# Altium integrated library TI Interface Line Transceiver.IntLib: 631 symbols (part 10 of 17)
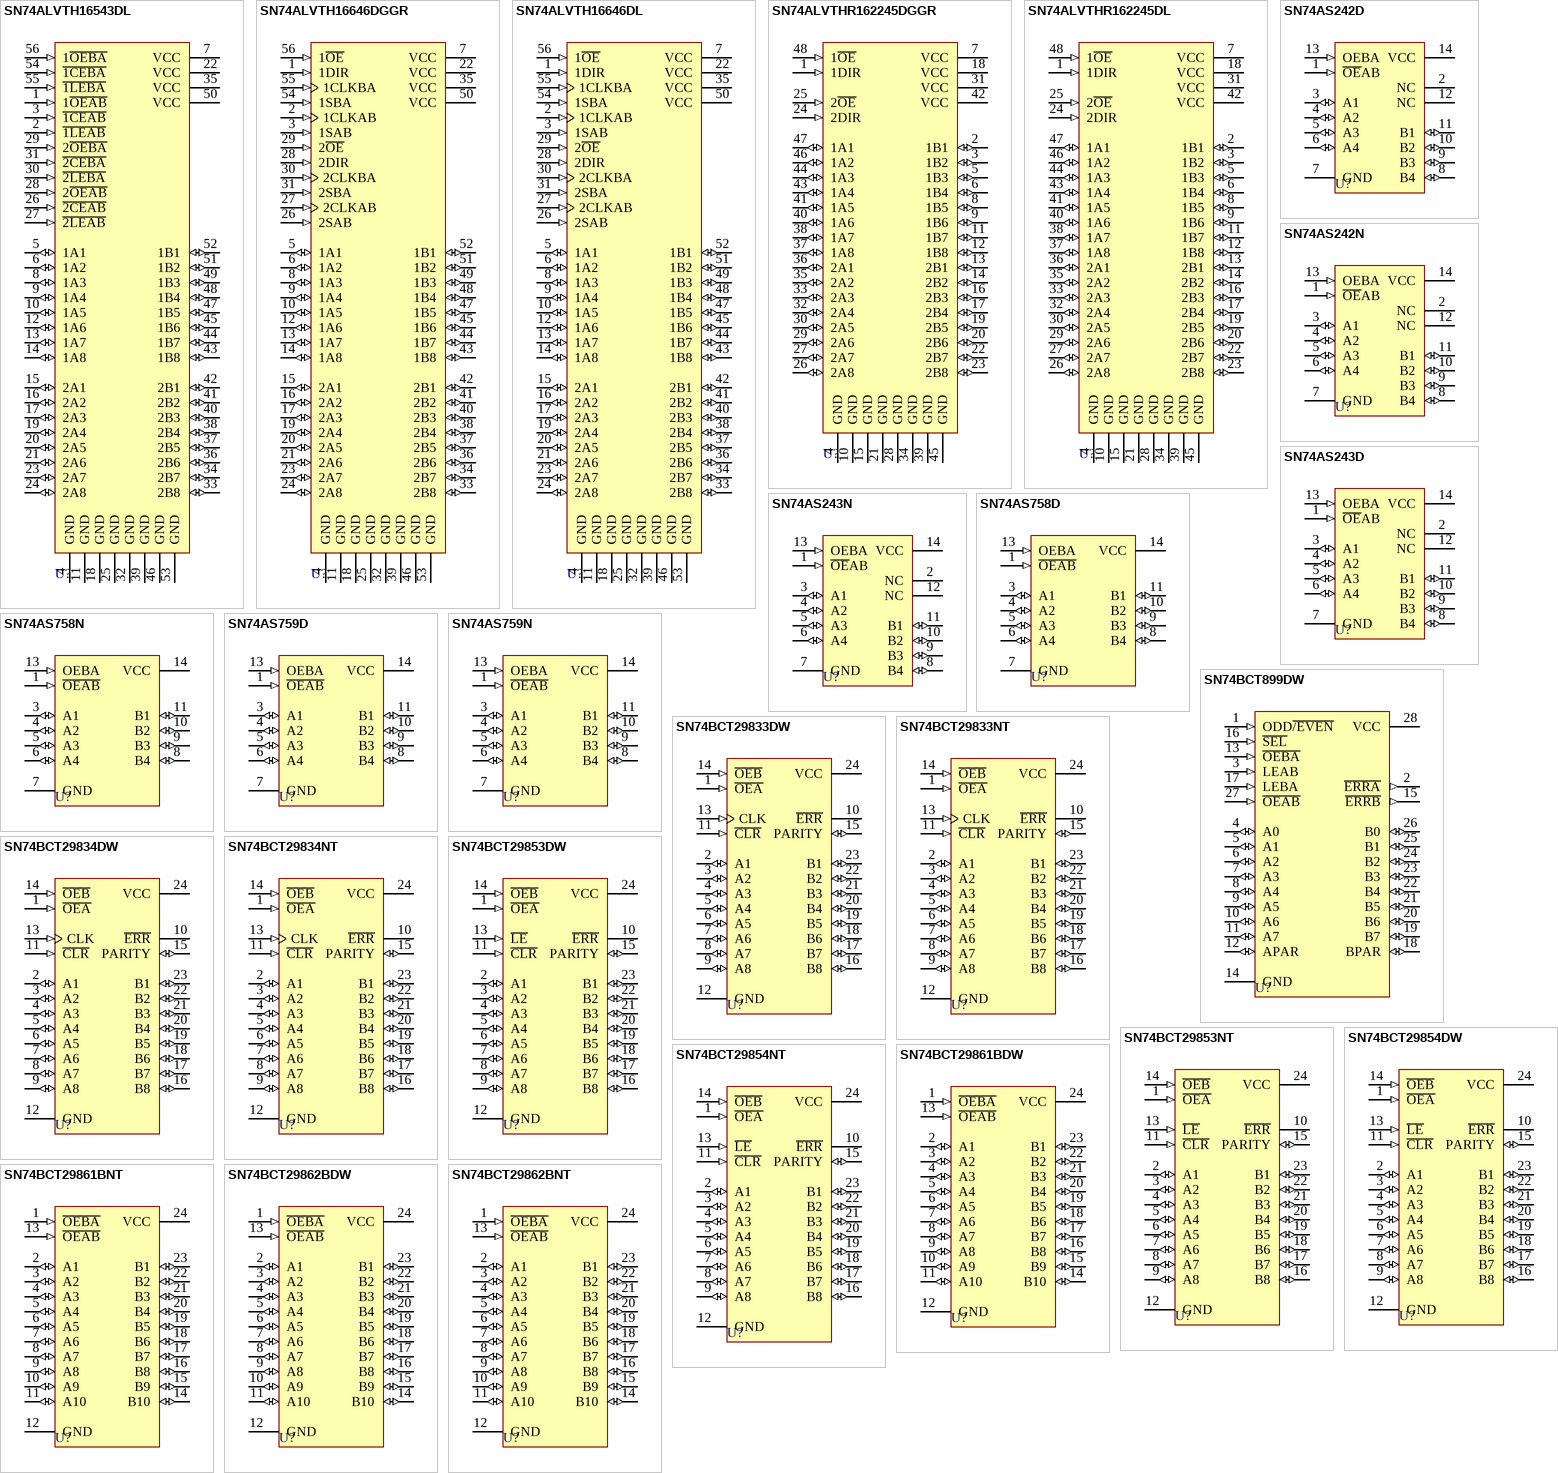
[diagram p48: symbols SN74ALVTH16543DL to SN74BCT29862BNT]

## SN74ALVTH16646DGGR
designator U?
2.5-V/3.3-V 16-Bit Bus Transceiver with 3-State Outputs; Published: 8-Jun-2000; LatestRevisionDate: 04-Mar-2005; LatestRevisionNote: Stylized 3D Model Added.; DatasheetVersion: Jul-1996; PackageVersion: Jan-1998; PackageReference: DGG056; Publisher: Altium Limited; PackageDescription: Shrink Small Outline; 56 Leads; Body Width 6.1 mm; Pitch 0.5 mm; ComponentLink1Description: Manufacturer Link; ComponentLink1URL: http://www.ti.com/
footprint DGG056 (Shrink Small Outline; 56 Leads; Body Width 6.1 mm; Pitch 0.5 mm)
3D model DGG056 (Shrink Small Outline; 56 Leads; Body Width 6.1 mm; Pitch 0.5 mm)
pins: 1 1DIR (in), 2 1CLKAB (in), 3 1SAB (in), 4 GND (power), 5 1A1 (io), 6 1A2 (io), 7 VCC (power), 8 1A3 (io), 9 1A4 (io), 10 1A5 (io), 11 GND (power), 12 1A6 (io), 13 1A7 (io), 14 1A8 (io), 15 2A1 (io), 16 2A2 (io), 17 2A3 (io), 18 GND (power), 19 2A4 (io), 20 2A5 (io), 21 2A6 (io), 22 VCC (power), 23 2A7 (io), 24 2A8 (io), 25 GND (power), 26 2SAB (in), 27 2CLKAB (in), 28 2DIR (in), 29 2~{OE} (in), 30 2CLKBA (in), 31 2SBA (in), 32 GND (power), 33 2B8 (io), 34 2B7 (io), 35 VCC (power), 36 2B6 (io), 37 2B5 (io), 38 2B4 (io), 39 GND (power), 40 2B3 (io), 41 2B2 (io), 42 2B1 (io), 43 1B8 (io), 44 1B7 (io), 45 1B6 (io), 46 GND (power), 47 1B5 (io), 48 1B4 (io), 49 1B3 (io), 50 VCC (power), 51 1B2 (io), 52 1B1 (io), 53 GND (power), 54 1SBA (in), 55 1CLKBA (in), 56 1~{OE} (in)

## SN74ALVTH16646DL
designator U?
2.5-V/3.3-V 16-Bit Bus Transceiver with 3-State Outputs; Published: 8-Jun-2000; LatestRevisionDate: 04-Mar-2005; LatestRevisionNote: Stylized 3D Model Added.; DatasheetVersion: Jul-1996; PackageVersion: Dec-2001; PackageReference: DL056; Publisher: Altium Limited; PackageDescription: SSOP; 56 Leads; Body Width 7.5 mm; Pitch 0.635 mm; Code_JEDEC: MO-118-AB; Code_IPC: SSO56; ComponentLink1Description: Manufacturer Link; ComponentLink1URL: http://www.ti.com/
footprint DL056 (SSOP; 56 Leads; Body Width 7.5 mm; Pitch 0.635 mm)
3D model DL056 (SSOP; 56 Leads; Body Width 7.5 mm; Pitch 0.635 mm)
pins: 1 1DIR (in), 2 1CLKAB (in), 3 1SAB (in), 4 GND (power), 5 1A1 (io), 6 1A2 (io), 7 VCC (power), 8 1A3 (io), 9 1A4 (io), 10 1A5 (io), 11 GND (power), 12 1A6 (io), 13 1A7 (io), 14 1A8 (io), 15 2A1 (io), 16 2A2 (io), 17 2A3 (io), 18 GND (power), 19 2A4 (io), 20 2A5 (io), 21 2A6 (io), 22 VCC (power), 23 2A7 (io), 24 2A8 (io), 25 GND (power), 26 2SAB (in), 27 2CLKAB (in), 28 2DIR (in), 29 2~{OE} (in), 30 2CLKBA (in), 31 2SBA (in), 32 GND (power), 33 2B8 (io), 34 2B7 (io), 35 VCC (power), 36 2B6 (io), 37 2B5 (io), 38 2B4 (io), 39 GND (power), 40 2B3 (io), 41 2B2 (io), 42 2B1 (io), 43 1B8 (io), 44 1B7 (io), 45 1B6 (io), 46 GND (power), 47 1B5 (io), 48 1B4 (io), 49 1B3 (io), 50 VCC (power), 51 1B2 (io), 52 1B1 (io), 53 GND (power), 54 1SBA (in), 55 1CLKBA (in), 56 1~{OE} (in)

## SN74ALVTHR162245DGGR
designator U?
2.5-V/3.3-V 16-Bit Bus Transceiver with 3-State Outputs; Published: 8-Jun-2000; LatestRevisionDate: 04-Mar-2005; LatestRevisionNote: Stylized 3D Model Added.; DatasheetVersion: Jul-1996; PackageVersion: Jan-1998; PackageReference: DGG048; Publisher: Altium Limited; PackageDescription: Shrink Small Outline; 48 Leads; Body Width 6.1 mm; Pitch 0.5 mm; ComponentLink1Description: Manufacturer Link; ComponentLink1URL: http://www.ti.com/
footprint DGG048 (Shrink Small Outline; 48 Leads; Body Width 6.1 mm; Pitch 0.5 mm)
3D model DGG048 (Shrink Small Outline; 48 Leads; Body Width 6.1 mm; Pitch 0.5 mm)
pins: 1 1DIR (in), 2 1B1 (io), 3 1B2 (io), 4 GND (power), 5 1B3 (io), 6 1B4 (io), 7 VCC (power), 8 1B5 (io), 9 1B6 (io), 10 GND (power), 11 1B7 (io), 12 1B8 (io), 13 2B1 (io), 14 2B2 (io), 15 GND (power), 16 2B3 (io), 17 2B4 (io), 18 VCC (power), 19 2B5 (io), 20 2B6 (io), 21 GND (power), 22 2B7 (io), 23 2B8 (io), 24 2DIR (in), 25 2~{OE} (in), 26 2A8 (io), 27 2A7 (io), 28 GND (power), 29 2A6 (io), 30 2A5 (io), 31 VCC (power), 32 2A4 (io), 33 2A3 (io), 34 GND (power), 35 2A2 (io), 36 2A1 (io), 37 1A8 (io), 38 1A7 (io), 39 GND (power), 40 1A6 (io), 41 1A5 (io), 42 VCC (power), 43 1A4 (io), 44 1A3 (io), 45 GND (power), 46 1A2 (io), 47 1A1 (io), 48 1~{OE} (in)

## SN74ALVTHR162245DL
designator U?
2.5-V/3.3-V 16-Bit Bus Transceiver with 3-State Outputs; Published: 8-Jun-2000; LatestRevisionDate: 04-Mar-2005; LatestRevisionNote: Stylized 3D Model Added.; DatasheetVersion: Jul-1996; PackageVersion: Dec-2001; PackageReference: DL048; Publisher: Altium Limited; PackageDescription: SSOP; 48 Leads; Body Width 7.5 mm; Pitch 0.635 mm; Code_JEDEC: MO-118-AA; Code_IPC: SSO48; ComponentLink1Description: Manufacturer Link; ComponentLink1URL: http://www.ti.com/
footprint DL048 (SSOP; 48 Leads; Body Width 7.5 mm; Pitch 0.635 mm)
3D model DL048 (SSOP; 48 Leads; Body Width 7.5 mm; Pitch 0.635 mm)
pins: 1 1DIR (in), 2 1B1 (io), 3 1B2 (io), 4 GND (power), 5 1B3 (io), 6 1B4 (io), 7 VCC (power), 8 1B5 (io), 9 1B6 (io), 10 GND (power), 11 1B7 (io), 12 1B8 (io), 13 2B1 (io), 14 2B2 (io), 15 GND (power), 16 2B3 (io), 17 2B4 (io), 18 VCC (power), 19 2B5 (io), 20 2B6 (io), 21 GND (power), 22 2B7 (io), 23 2B8 (io), 24 2DIR (in), 25 2~{OE} (in), 26 2A8 (io), 27 2A7 (io), 28 GND (power), 29 2A6 (io), 30 2A5 (io), 31 VCC (power), 32 2A4 (io), 33 2A3 (io), 34 GND (power), 35 2A2 (io), 36 2A1 (io), 37 1A8 (io), 38 1A7 (io), 39 GND (power), 40 1A6 (io), 41 1A5 (io), 42 VCC (power), 43 1A4 (io), 44 1A3 (io), 45 GND (power), 46 1A2 (io), 47 1A1 (io), 48 1~{OE} (in)

## SN74AS242D
designator U?
Quadruple Bus Transceiver with 3-State Outputs; Note: Pins 2 and 12 are not connected; Published: 8-Jun-2000; LatestRevisionDate: 13-Apr-2006; LatestRevisionNote: IPC-7351 Footprint Added.; DatasheetVersion: May-1986; PackageVersion: Jan-1998; PackageReference: D014; Publisher: Altium Limited; PackageDescription: 14-Pin Small Outline Integrated Circuit 1.27 mm Pitch; Code_IPC: SOIC127P600-14; ComponentLink1Description: Manufacturer Link; ComponentLink1URL: http://www.ti.com/
footprint D014_N (SOIC, 14-Leads, Body 8.7x3.9mm, Pitch 1.27mm, IPC Medium Density)
footprint D014_L (SOIC, 14-Leads, Body 8.7x3.9mm, Pitch 1.27mm, IPC High Density)
footprint D014_M (SOIC, 14-Leads, Body 8.7x3.9mm, Pitch 1.27mm, IPC Low Density)
3D model D014 (14-Pin Small Outline Integrated Circuit 1.27 mm Pitch)
signal-integrity model SN74AS242D
pins: 1 ~{OE}AB (in), 2 NC, 3 A1 (io), 4 A2 (io), 5 A3 (io), 6 A4 (io), 7 GND (power), 8 B4 (io), 9 B3 (io), 10 B2 (io), 11 B1 (io), 12 NC, 13 OEBA (in), 14 VCC (power)

## SN74AS242N
designator U?
Quadruple Bus Transceiver with 3-State Outputs; Note: Pins 2 and 12 are not connected; Published: 8-Jun-2000; LatestRevisionDate: 04-Mar-2005; LatestRevisionNote: Stylized 3D Model Added.; DatasheetVersion: May-1986; PackageVersion: Oct-1995; PackageReference: N014D; Publisher: Altium Limited; PackageDescription: DIP; 14 Leads; Row Spacing 7.62 mm; Pitch 2.54 mm; ComponentLink1Description: Manufacturer Link; ComponentLink1URL: http://www.ti.com/
footprint N014D (DIP; 14 Leads; Row Spacing 7.62 mm; Pitch 2.54 mm)
3D model N014 (DIP; 14 Leads; Row Spacing 7.62 mm; Pitch 2.54 mm)
signal-integrity model SN74AS242N
pins: 1 ~{OE}AB (in), 2 NC, 3 A1 (io), 4 A2 (io), 5 A3 (io), 6 A4 (io), 7 GND (power), 8 B4 (io), 9 B3 (io), 10 B2 (io), 11 B1 (io), 12 NC, 13 OEBA (in), 14 VCC (power)

## SN74AS243D
designator U?
Quadruple Bus Transceiver with 3-State Outputs; Note: Pins 2 and 12 are not connected; Published: 8-Jun-2000; LatestRevisionDate: 13-Apr-2006; LatestRevisionNote: IPC-7351 Footprint Added.; DatasheetVersion: May-1986; PackageVersion: Jan-1998; PackageReference: D014; Publisher: Altium Limited; PackageDescription: 14-Pin Small Outline Integrated Circuit 1.27 mm Pitch; Code_IPC: SOIC127P600-14; ComponentLink1Description: Manufacturer Link; ComponentLink1URL: http://www.ti.com/
footprint D014_N (SOIC, 14-Leads, Body 8.7x3.9mm, Pitch 1.27mm, IPC Medium Density)
footprint D014_L (SOIC, 14-Leads, Body 8.7x3.9mm, Pitch 1.27mm, IPC High Density)
footprint D014_M (SOIC, 14-Leads, Body 8.7x3.9mm, Pitch 1.27mm, IPC Low Density)
3D model D014 (14-Pin Small Outline Integrated Circuit 1.27 mm Pitch)
signal-integrity model SN74AS243D
pins: 1 ~{OE}AB (in), 2 NC, 3 A1 (io), 4 A2 (io), 5 A3 (io), 6 A4 (io), 7 GND (power), 8 B4 (io), 9 B3 (io), 10 B2 (io), 11 B1 (io), 12 NC, 13 OEBA (in), 14 VCC (power)

## SN74AS243N
designator U?
Quadruple Bus Transceiver with 3-State Outputs; Note: Pins 2 and 12 are not connected; Published: 8-Jun-2000; LatestRevisionDate: 04-Mar-2005; LatestRevisionNote: Stylized 3D Model Added.; DatasheetVersion: May-1986; PackageVersion: Oct-1995; PackageReference: N014D; Publisher: Altium Limited; PackageDescription: DIP; 14 Leads; Row Spacing 7.62 mm; Pitch 2.54 mm; ComponentLink1Description: Manufacturer Link; ComponentLink1URL: http://www.ti.com/
footprint N014D (DIP; 14 Leads; Row Spacing 7.62 mm; Pitch 2.54 mm)
3D model N014 (DIP; 14 Leads; Row Spacing 7.62 mm; Pitch 2.54 mm)
signal-integrity model SN74AS243N
pins: 1 ~{OE}AB (in), 2 NC, 3 A1 (io), 4 A2 (io), 5 A3 (io), 6 A4 (io), 7 GND (power), 8 B4 (io), 9 B3 (io), 10 B2 (io), 11 B1 (io), 12 NC, 13 OEBA (in), 14 VCC (power)

## SN74AS758D
designator U?
Quadruple Bus Transceiver with Open-Collector Outputs; Note: Pins 2 and 12 are not connected; Published: 8-Jun-2000; LatestRevisionDate: 13-Apr-2006; LatestRevisionNote: IPC-7351 Footprint Added.; DatasheetVersion: May-1986; PackageVersion: Jan-1998; PackageReference: D014; Publisher: Altium Limited; PackageDescription: 14-Pin Small Outline Integrated Circuit 1.27 mm Pitch; Code_IPC: SOIC127P600-14; ComponentLink1Description: Manufacturer Link; ComponentLink1URL: http://www.ti.com/
footprint D014_N (SOIC, 14-Leads, Body 8.7x3.9mm, Pitch 1.27mm, IPC Medium Density)
footprint D014_L (SOIC, 14-Leads, Body 8.7x3.9mm, Pitch 1.27mm, IPC High Density)
footprint D014_M (SOIC, 14-Leads, Body 8.7x3.9mm, Pitch 1.27mm, IPC Low Density)
3D model D014 (14-Pin Small Outline Integrated Circuit 1.27 mm Pitch)
signal-integrity model SN74AS758D
pins: 1 ~{OEAB} (in), 3 A1 (io), 4 A2 (io), 5 A3 (io), 6 A4 (io), 7 GND (power), 8 B4 (io), 9 B3 (io), 10 B2 (io), 11 B1 (io), 13 OEBA (in), 14 VCC (power)

## SN74AS758N
designator U?
Quadruple Bus Transceiver with Open-Collector Outputs; Note: Pins 2 and 12 are not connected; Published: 8-Jun-2000; LatestRevisionDate: 04-Mar-2005; LatestRevisionNote: Stylized 3D Model Added.; DatasheetVersion: May-1986; PackageVersion: Oct-1995; PackageReference: N014D; Publisher: Altium Limited; PackageDescription: DIP; 14 Leads; Row Spacing 7.62 mm; Pitch 2.54 mm; ComponentLink1Description: Manufacturer Link; ComponentLink1URL: http://www.ti.com/
footprint N014D (DIP; 14 Leads; Row Spacing 7.62 mm; Pitch 2.54 mm)
3D model N014 (DIP; 14 Leads; Row Spacing 7.62 mm; Pitch 2.54 mm)
signal-integrity model SN74AS758N
pins: 1 ~{OEAB} (in), 3 A1 (io), 4 A2 (io), 5 A3 (io), 6 A4 (io), 7 GND (power), 8 B4 (io), 9 B3 (io), 10 B2 (io), 11 B1 (io), 13 OEBA (in), 14 VCC (power)

## SN74AS759D
designator U?
Quadruple Bus Transceiver with Open-Collector Outputs; Note: Pins 2 and 12 are not connected; Published: 8-Jun-2000; LatestRevisionDate: 13-Apr-2006; LatestRevisionNote: IPC-7351 Footprint Added.; DatasheetVersion: May-1986; PackageVersion: Jan-1998; PackageReference: D014; Publisher: Altium Limited; PackageDescription: 14-Pin Small Outline Integrated Circuit 1.27 mm Pitch; Code_IPC: SOIC127P600-14; ComponentLink1Description: Manufacturer Link; ComponentLink1URL: http://www.ti.com/
footprint D014_N (SOIC, 14-Leads, Body 8.7x3.9mm, Pitch 1.27mm, IPC Medium Density)
footprint D014_L (SOIC, 14-Leads, Body 8.7x3.9mm, Pitch 1.27mm, IPC High Density)
footprint D014_M (SOIC, 14-Leads, Body 8.7x3.9mm, Pitch 1.27mm, IPC Low Density)
3D model D014 (14-Pin Small Outline Integrated Circuit 1.27 mm Pitch)
signal-integrity model SN74AS759D
pins: 1 ~{OEAB} (in), 3 A1 (io), 4 A2 (io), 5 A3 (io), 6 A4 (io), 7 GND (power), 8 B4 (io), 9 B3 (io), 10 B2 (io), 11 B1 (io), 13 OEBA (in), 14 VCC (power)

## SN74AS759N
designator U?
Quadruple Bus Transceiver with Open-Collector Outputs; Note: Pins 2 and 12 are not connected; Published: 8-Jun-2000; LatestRevisionDate: 04-Mar-2005; LatestRevisionNote: Stylized 3D Model Added.; DatasheetVersion: May-1986; PackageVersion: Oct-1995; PackageReference: N014D; Publisher: Altium Limited; PackageDescription: DIP; 14 Leads; Row Spacing 7.62 mm; Pitch 2.54 mm; ComponentLink1Description: Manufacturer Link; ComponentLink1URL: http://www.ti.com/
footprint N014D (DIP; 14 Leads; Row Spacing 7.62 mm; Pitch 2.54 mm)
3D model N014 (DIP; 14 Leads; Row Spacing 7.62 mm; Pitch 2.54 mm)
signal-integrity model SN74AS759N
pins: 1 ~{OEAB} (in), 3 A1 (io), 4 A2 (io), 5 A3 (io), 6 A4 (io), 7 GND (power), 8 B4 (io), 9 B3 (io), 10 B2 (io), 11 B1 (io), 13 OEBA (in), 14 VCC (power)

## SN74BCT899DW
designator U?
9-Bit Latchable Transceiver with Parity Generator/Checker; ComponentAvailability: Obsolete; Published: 8-Jun-2000; LatestRevisionDate: 13-Apr-2006; LatestRevisionNote: IPC-7351 Footprint Added.; DatasheetVersion: Nov-1993; PackageVersion: Mar-2000; PackageReference: DW028; Publisher: Altium Limited; PackageDescription: 28-Pin Plastic Small Outline Integrated Circuit 1.27 mm Pitch; Code_JEDEC: MS-013; ComponentLink1Description: Manufacturer Link; ComponentLink1URL: http://www.ti.com/; ComponentLink2Description: Datasheet; ComponentLink2URL: http://www-s.ti.com/sc/ds/sn74bct899.pdf
footprint DW028_N (SOIC, 28-Leads, Body 17.9x7.5mm, Pitch 1.27mm, IPC Medium Density)
footprint DW028_L (SOIC, 28-Leads, Body 17.9x7.5mm, Pitch 1.27mm, IPC High Density)
footprint DW028_M (SOIC, 28-Leads, Body 17.9x7.5mm, Pitch 1.27mm, IPC Low Density)
3D model DW028 (28-Pin Plastic Small Outline Integrated Circuit 1.27 mm Pitch)
signal-integrity model SN74BCT899DW
pins: 1 ODD~{/EVEN} (in), 2 ~{ERRA} (out), 3 LEAB (in), 4 A0 (io), 5 A1 (io), 6 A2 (io), 7 A3 (io), 8 A4 (io), 9 A5 (io), 10 A6 (io), 11 A7 (io), 12 APAR (io), 13 ~{OEBA} (in), 14 GND (power), 15 ~{ERRB} (out), 16 ~{SEL} (in), 17 LEBA (in), 18 BPAR (io), 19 B7 (io), 20 B6 (io), 21 B5 (io), 22 B4 (io), 23 B3 (io), 24 B2 (io), 25 B1 (io), 26 B0 (io), 27 ~{OEAB} (in), 28 VCC (power)

## SN74BCT29833DW
designator U?
8-Bit to 9-Bit Parity Bus Transceiver; ComponentAvailability: Obsolete; Published: 8-Jun-2000; LatestRevisionDate: 13-Apr-2006; LatestRevisionNote: IPC-7351 Footprint Added.; DatasheetVersion: Nov-1993; PackageVersion: Mar-2000; PackageReference: DW024; Publisher: Altium Limited; PackageDescription: 24-Pin Plastic Small Outline Integrated Circuit 1.27 mm Pitch; Code_JEDEC: MS-013; ComponentLink1Description: Manufacturer Link; ComponentLink1URL: http://www.ti.com/; ComponentLink2Description: Datasheet; ComponentLink2URL: http://www-s.ti.com/sc/ds/sn74bct29833.pdf
footprint DW024_N (SOIC, 24-Leads, Body 15.4x7.5mm, Pitch 1.27mm, IPC Medium Density)
footprint DW024_L (SOIC, 24-Leads, Body 15.4x7.5mm, Pitch 1.27mm, IPC High Density)
footprint DW024_M (SOIC, 24-Leads, Body 15.4x7.5mm, Pitch 1.27mm, IPC Low Density)
3D model DW024 (24-Pin Plastic Small Outline Integrated Circuit 1.27 mm Pitch)
signal-integrity model SN74BCT29833DW
pins: 1 ~{OEA} (in), 2 A1 (io), 3 A2 (io), 4 A3 (io), 5 A4 (io), 6 A5 (io), 7 A6 (io), 8 A7 (io), 9 A8 (io), 10 ~{ERR} (oc), 11 ~{CLR} (in), 12 GND (power), 13 CLK (in), 14 ~{OEB} (in), 15 PARITY (io), 16 B8 (io), 17 B7 (io), 18 B6 (io), 19 B5 (io), 20 B4 (io), 21 B3 (io), 22 B2 (io), 23 B1 (io), 24 VCC (power)

## SN74BCT29833NT
designator U?
8-Bit to 9-Bit Parity Bus Transceiver; ComponentAvailability: Obsolete; Published: 8-Jun-2000; LatestRevisionDate: 04-Mar-2005; LatestRevisionNote: Stylized 3D Model Added.; DatasheetVersion: Nov-1993; PackageVersion: Oct-1994; PackageReference: NT024; Publisher: Altium Limited; PackageDescription: DIP; 24 Leads; Row Spacing 7.62 mm; Pitch 2.54 mm; Code_JEDEC: MS-001-AF; ComponentLink1Description: Manufacturer Link; ComponentLink1URL: http://www.ti.com/; ComponentLink2Description: Datasheet; ComponentLink2URL: http://www-s.ti.com/sc/ds/sn74bct29833.pdf
footprint NT024 (DIP; 24 Leads; Row Spacing 7.62 mm; Pitch 2.54 mm)
3D model JT024 (DIP; 24 Leads; Row Spacing 7.62 mm; Pitch 2.54 mm)
signal-integrity model SN74BCT29833NT
pins: 1 ~{OEA} (in), 2 A1 (io), 3 A2 (io), 4 A3 (io), 5 A4 (io), 6 A5 (io), 7 A6 (io), 8 A7 (io), 9 A8 (io), 10 ~{ERR} (oc), 11 ~{CLR} (in), 12 GND (power), 13 CLK (in), 14 ~{OEB} (in), 15 PARITY (io), 16 B8 (io), 17 B7 (io), 18 B6 (io), 19 B5 (io), 20 B4 (io), 21 B3 (io), 22 B2 (io), 23 B1 (io), 24 VCC (power)

## SN74BCT29834DW
designator U?
8-Bit to 9-Bit Parity Bus Transceiver; ComponentAvailability: Obsolete; Published: 8-Jun-2000; LatestRevisionDate: 13-Apr-2006; LatestRevisionNote: IPC-7351 Footprint Added.; DatasheetVersion: Nov-1993; PackageVersion: Mar-2000; PackageReference: DW024; Publisher: Altium Limited; PackageDescription: 24-Pin Plastic Small Outline Integrated Circuit 1.27 mm Pitch; Code_JEDEC: MS-013; ComponentLink1Description: Manufacturer Link; ComponentLink1URL: http://www.ti.com/; ComponentLink2Description: Datasheet; ComponentLink2URL: http://www-s.ti.com/sc/ds/sn74bct29834.pdf
footprint DW024_N (SOIC, 24-Leads, Body 15.4x7.5mm, Pitch 1.27mm, IPC Medium Density)
footprint DW024_L (SOIC, 24-Leads, Body 15.4x7.5mm, Pitch 1.27mm, IPC High Density)
footprint DW024_M (SOIC, 24-Leads, Body 15.4x7.5mm, Pitch 1.27mm, IPC Low Density)
3D model DW024 (24-Pin Plastic Small Outline Integrated Circuit 1.27 mm Pitch)
signal-integrity model SN74BCT29834DW
pins: 1 ~{OEA} (in), 2 A1 (io), 3 A2 (io), 4 A3 (io), 5 A4 (io), 6 A5 (io), 7 A6 (io), 8 A7 (io), 9 A8 (io), 10 ~{ERR} (oc), 11 ~{CLR} (in), 12 GND (power), 13 CLK (in), 14 ~{OEB} (in), 15 PARITY (io), 16 B8 (io), 17 B7 (io), 18 B6 (io), 19 B5 (io), 20 B4 (io), 21 B3 (io), 22 B2 (io), 23 B1 (io), 24 VCC (power)

## SN74BCT29834NT
designator U?
8-Bit to 9-Bit Parity Bus Transceiver; ComponentAvailability: Obsolete; Published: 8-Jun-2000; LatestRevisionDate: 04-Mar-2005; LatestRevisionNote: Stylized 3D Model Added.; DatasheetVersion: Nov-1993; PackageVersion: Oct-1994; PackageReference: NT024; Publisher: Altium Limited; PackageDescription: DIP; 24 Leads; Row Spacing 7.62 mm; Pitch 2.54 mm; Code_JEDEC: MS-001-AF; ComponentLink1Description: Manufacturer Link; ComponentLink1URL: http://www.ti.com/; ComponentLink2Description: Datasheet; ComponentLink2URL: http://www-s.ti.com/sc/ds/sn74bct29834.pdf
footprint NT024 (DIP; 24 Leads; Row Spacing 7.62 mm; Pitch 2.54 mm)
3D model JT024 (DIP; 24 Leads; Row Spacing 7.62 mm; Pitch 2.54 mm)
signal-integrity model SN74BCT29834NT
pins: 1 ~{OEA} (in), 2 A1 (io), 3 A2 (io), 4 A3 (io), 5 A4 (io), 6 A5 (io), 7 A6 (io), 8 A7 (io), 9 A8 (io), 10 ~{ERR} (oc), 11 ~{CLR} (in), 12 GND (power), 13 CLK (in), 14 ~{OEB} (in), 15 PARITY (io), 16 B8 (io), 17 B7 (io), 18 B6 (io), 19 B5 (io), 20 B4 (io), 21 B3 (io), 22 B2 (io), 23 B1 (io), 24 VCC (power)

## SN74BCT29853DW
designator U?
8-Bit to 9-Bit Parity Bus Transceiver; ComponentAvailability: Obsolete; Published: 8-Jun-2000; LatestRevisionDate: 13-Apr-2006; LatestRevisionNote: IPC-7351 Footprint Added.; DatasheetVersion: Apr-1994; PackageVersion: Mar-2000; PackageReference: DW024; Publisher: Altium Limited; PackageDescription: 24-Pin Plastic Small Outline Integrated Circuit 1.27 mm Pitch; Code_JEDEC: MS-013; ComponentLink1Description: Manufacturer Link; ComponentLink1URL: http://www.ti.com/; ComponentLink2Description: Datasheet; ComponentLink2URL: http://www-s.ti.com/sc/ds/sn74bct29853.pdf
footprint DW024_N (SOIC, 24-Leads, Body 15.4x7.5mm, Pitch 1.27mm, IPC Medium Density)
footprint DW024_L (SOIC, 24-Leads, Body 15.4x7.5mm, Pitch 1.27mm, IPC High Density)
footprint DW024_M (SOIC, 24-Leads, Body 15.4x7.5mm, Pitch 1.27mm, IPC Low Density)
3D model DW024 (24-Pin Plastic Small Outline Integrated Circuit 1.27 mm Pitch)
signal-integrity model SN74BCT29853DW
pins: 1 ~{OEA} (in), 2 A1 (io), 3 A2 (io), 4 A3 (io), 5 A4 (io), 6 A5 (io), 7 A6 (io), 8 A7 (io), 9 A8 (io), 10 ~{ERR} (oc), 11 ~{CLR} (in), 12 GND (power), 13 ~{LE} (in), 14 ~{OEB} (in), 15 PARITY (io), 16 B8 (io), 17 B7 (io), 18 B6 (io), 19 B5 (io), 20 B4 (io), 21 B3 (io), 22 B2 (io), 23 B1 (io), 24 VCC (power)

## SN74BCT29853NT
designator U?
8-Bit to 9-Bit Parity Bus Transceiver; ComponentAvailability: Obsolete; Published: 8-Jun-2000; LatestRevisionDate: 04-Mar-2005; LatestRevisionNote: Stylized 3D Model Added.; DatasheetVersion: Apr-1994; PackageVersion: Oct-1994; PackageReference: NT024; Publisher: Altium Limited; PackageDescription: DIP; 24 Leads; Row Spacing 7.62 mm; Pitch 2.54 mm; Code_JEDEC: MS-001-AF; ComponentLink1Description: Manufacturer Link; ComponentLink1URL: http://www.ti.com/; ComponentLink2Description: Datasheet; ComponentLink2URL: http://www-s.ti.com/sc/ds/sn74bct29853.pdf
footprint NT024 (DIP; 24 Leads; Row Spacing 7.62 mm; Pitch 2.54 mm)
3D model JT024 (DIP; 24 Leads; Row Spacing 7.62 mm; Pitch 2.54 mm)
signal-integrity model SN74BCT29853NT
pins: 1 ~{OEA} (in), 2 A1 (io), 3 A2 (io), 4 A3 (io), 5 A4 (io), 6 A5 (io), 7 A6 (io), 8 A7 (io), 9 A8 (io), 10 ~{ERR} (oc), 11 ~{CLR} (in), 12 GND (power), 13 ~{LE} (in), 14 ~{OEB} (in), 15 PARITY (io), 16 B8 (io), 17 B7 (io), 18 B6 (io), 19 B5 (io), 20 B4 (io), 21 B3 (io), 22 B2 (io), 23 B1 (io), 24 VCC (power)

## SN74BCT29854DW
designator U?
8-Bit to 9-Bit Parity Bus Transceiver; Published: 8-Jun-2000; LatestRevisionDate: 13-Apr-2006; LatestRevisionNote: IPC-7351 Footprint Added.; DatasheetVersion: Nov-1993; PackageVersion: Mar-2000; PackageReference: DW024; Publisher: Altium Limited; PackageDescription: 24-Pin Plastic Small Outline Integrated Circuit 1.27 mm Pitch; Code_JEDEC: MS-013; ComponentLink1Description: Manufacturer Link; ComponentLink1URL: http://www.ti.com/; ComponentLink2Description: Datasheet; ComponentLink2URL: http://www-s.ti.com/sc/ds/sn74bct29854.pdf
footprint DW024_N (SOIC, 24-Leads, Body 15.4x7.5mm, Pitch 1.27mm, IPC Medium Density)
footprint DW024_L (SOIC, 24-Leads, Body 15.4x7.5mm, Pitch 1.27mm, IPC High Density)
footprint DW024_M (SOIC, 24-Leads, Body 15.4x7.5mm, Pitch 1.27mm, IPC Low Density)
3D model DW024 (24-Pin Plastic Small Outline Integrated Circuit 1.27 mm Pitch)
signal-integrity model SN74BCT29854DW
pins: 1 ~{OEA} (in), 2 A1 (io), 3 A2 (io), 4 A3 (io), 5 A4 (io), 6 A5 (io), 7 A6 (io), 8 A7 (io), 9 A8 (io), 10 ~{ERR} (oc), 11 ~{CLR} (in), 12 GND (power), 13 ~{LE} (in), 14 ~{OEB} (in), 15 PARITY (io), 16 B8 (io), 17 B7 (io), 18 B6 (io), 19 B5 (io), 20 B4 (io), 21 B3 (io), 22 B2 (io), 23 B1 (io), 24 VCC (power)

## SN74BCT29854NT
designator U?
8-Bit to 9-Bit Parity Bus Transceiver; Published: 8-Jun-2000; LatestRevisionDate: 04-Mar-2005; LatestRevisionNote: Stylized 3D Model Added.; DatasheetVersion: Nov-1993; PackageVersion: Oct-1994; PackageReference: NT024; Publisher: Altium Limited; PackageDescription: DIP; 24 Leads; Row Spacing 7.62 mm; Pitch 2.54 mm; Code_JEDEC: MS-001-AF; ComponentLink1Description: Manufacturer Link; ComponentLink1URL: http://www.ti.com/; ComponentLink2Description: Datasheet; ComponentLink2URL: http://www-s.ti.com/sc/ds/sn74bct29854.pdf
footprint NT024 (DIP; 24 Leads; Row Spacing 7.62 mm; Pitch 2.54 mm)
3D model JT024 (DIP; 24 Leads; Row Spacing 7.62 mm; Pitch 2.54 mm)
signal-integrity model SN74BCT29854NT
pins: 1 ~{OEA} (in), 2 A1 (io), 3 A2 (io), 4 A3 (io), 5 A4 (io), 6 A5 (io), 7 A6 (io), 8 A7 (io), 9 A8 (io), 10 ~{ERR} (oc), 11 ~{CLR} (in), 12 GND (power), 13 ~{LE} (in), 14 ~{OEB} (in), 15 PARITY (io), 16 B8 (io), 17 B7 (io), 18 B6 (io), 19 B5 (io), 20 B4 (io), 21 B3 (io), 22 B2 (io), 23 B1 (io), 24 VCC (power)

## SN74BCT29861BDW
designator U?
10-Bit Bus Transceiver with 3-State Outputs; ComponentAvailability: Obsolete; Published: 8-Jun-2000; LatestRevisionDate: 13-Apr-2006; LatestRevisionNote: IPC-7351 Footprint Added.; DatasheetVersion: Nov-1993; PackageVersion: Mar-2000; PackageReference: DW024; Publisher: Altium Limited; PackageDescription: 24-Pin Plastic Small Outline Integrated Circuit 1.27 mm Pitch; Code_JEDEC: MS-013; ComponentLink1Description: Manufacturer Link; ComponentLink1URL: http://www.ti.com/; ComponentLink2Description: Datasheet; ComponentLink2URL: http://www-s.ti.com/sc/ds/sn74bct29861b.pdf
footprint DW024_N (SOIC, 24-Leads, Body 15.4x7.5mm, Pitch 1.27mm, IPC Medium Density)
footprint DW024_L (SOIC, 24-Leads, Body 15.4x7.5mm, Pitch 1.27mm, IPC High Density)
footprint DW024_M (SOIC, 24-Leads, Body 15.4x7.5mm, Pitch 1.27mm, IPC Low Density)
3D model DW024 (24-Pin Plastic Small Outline Integrated Circuit 1.27 mm Pitch)
signal-integrity model SN74BCT29861BDW
pins: 1 ~{OEBA} (in), 2 A1 (io), 3 A2 (io), 4 A3 (io), 5 A4 (io), 6 A5 (io), 7 A6 (io), 8 A7 (io), 9 A8 (io), 10 A9 (io), 11 A10 (io), 12 GND (power), 13 ~{OEAB} (in), 14 B10 (io), 15 B9 (io), 16 B8 (io), 17 B7 (io), 18 B6 (io), 19 B5 (io), 20 B4 (io), 21 B3 (io), 22 B2 (io), 23 B1 (io), 24 VCC (power)

## SN74BCT29861BNT
designator U?
10-Bit Bus Transceiver with 3-State Outputs; ComponentAvailability: Obsolete; Published: 8-Jun-2000; LatestRevisionDate: 04-Mar-2005; LatestRevisionNote: Stylized 3D Model Added.; DatasheetVersion: Nov-1993; PackageVersion: Oct-1994; PackageReference: NT024; Publisher: Altium Limited; PackageDescription: DIP; 24 Leads; Row Spacing 7.62 mm; Pitch 2.54 mm; Code_JEDEC: MS-001-AF; ComponentLink1Description: Manufacturer Link; ComponentLink1URL: http://www.ti.com/; ComponentLink2Description: Datasheet; ComponentLink2URL: http://www-s.ti.com/sc/ds/sn74bct29861b.pdf
footprint NT024 (DIP; 24 Leads; Row Spacing 7.62 mm; Pitch 2.54 mm)
3D model JT024 (DIP; 24 Leads; Row Spacing 7.62 mm; Pitch 2.54 mm)
signal-integrity model SN74BCT29861BNT
pins: 1 ~{OEBA} (in), 2 A1 (io), 3 A2 (io), 4 A3 (io), 5 A4 (io), 6 A5 (io), 7 A6 (io), 8 A7 (io), 9 A8 (io), 10 A9 (io), 11 A10 (io), 12 GND (power), 13 ~{OEAB} (in), 14 B10 (io), 15 B9 (io), 16 B8 (io), 17 B7 (io), 18 B6 (io), 19 B5 (io), 20 B4 (io), 21 B3 (io), 22 B2 (io), 23 B1 (io), 24 VCC (power)

## SN74BCT29862BDW
designator U?
10-Bit Bus Transceiver with 3-State Outputs; ComponentAvailability: Obsolete; Published: 8-Jun-2000; LatestRevisionDate: 13-Apr-2006; LatestRevisionNote: IPC-7351 Footprint Added.; DatasheetVersion: Nov-1993; PackageVersion: Mar-2000; PackageReference: DW024; Publisher: Altium Limited; PackageDescription: 24-Pin Plastic Small Outline Integrated Circuit 1.27 mm Pitch; Code_JEDEC: MS-013; ComponentLink1Description: Manufacturer Link; ComponentLink1URL: http://www.ti.com/; ComponentLink2Description: Datasheet; ComponentLink2URL: http://www-s.ti.com/sc/ds/sn74bct29862b.pdf
footprint DW024_N (SOIC, 24-Leads, Body 15.4x7.5mm, Pitch 1.27mm, IPC Medium Density)
footprint DW024_L (SOIC, 24-Leads, Body 15.4x7.5mm, Pitch 1.27mm, IPC High Density)
footprint DW024_M (SOIC, 24-Leads, Body 15.4x7.5mm, Pitch 1.27mm, IPC Low Density)
3D model DW024 (24-Pin Plastic Small Outline Integrated Circuit 1.27 mm Pitch)
signal-integrity model SN74BCT29862BDW
pins: 1 ~{OEBA} (in), 2 A1 (io), 3 A2 (io), 4 A3 (io), 5 A4 (io), 6 A5 (io), 7 A6 (io), 8 A7 (io), 9 A8 (io), 10 A9 (io), 11 A10 (io), 12 GND (power), 13 ~{OEAB} (in), 14 B10 (io), 15 B9 (io), 16 B8 (io), 17 B7 (io), 18 B6 (io), 19 B5 (io), 20 B4 (io), 21 B3 (io), 22 B2 (io), 23 B1 (io), 24 VCC (power)

## SN74BCT29862BNT
designator U?
10-Bit Bus Transceiver with 3-State Outputs; ComponentAvailability: Obsolete; Published: 8-Jun-2000; LatestRevisionDate: 04-Mar-2005; LatestRevisionNote: Stylized 3D Model Added.; DatasheetVersion: Nov-1993; PackageVersion: Oct-1994; PackageReference: NT024; Publisher: Altium Limited; PackageDescription: DIP; 24 Leads; Row Spacing 7.62 mm; Pitch 2.54 mm; Code_JEDEC: MS-001-AF; ComponentLink1Description: Manufacturer Link; ComponentLink1URL: http://www.ti.com/; ComponentLink2Description: Datasheet; ComponentLink2URL: http://www-s.ti.com/sc/ds/sn74bct29862b.pdf
footprint NT024 (DIP; 24 Leads; Row Spacing 7.62 mm; Pitch 2.54 mm)
3D model JT024 (DIP; 24 Leads; Row Spacing 7.62 mm; Pitch 2.54 mm)
signal-integrity model SN74BCT29862BNT
pins: 1 ~{OEBA} (in), 2 A1 (io), 3 A2 (io), 4 A3 (io), 5 A4 (io), 6 A5 (io), 7 A6 (io), 8 A7 (io), 9 A8 (io), 10 A9 (io), 11 A10 (io), 12 GND (power), 13 ~{OEAB} (in), 14 B10 (io), 15 B9 (io), 16 B8 (io), 17 B7 (io), 18 B6 (io), 19 B5 (io), 20 B4 (io), 21 B3 (io), 22 B2 (io), 23 B1 (io), 24 VCC (power)

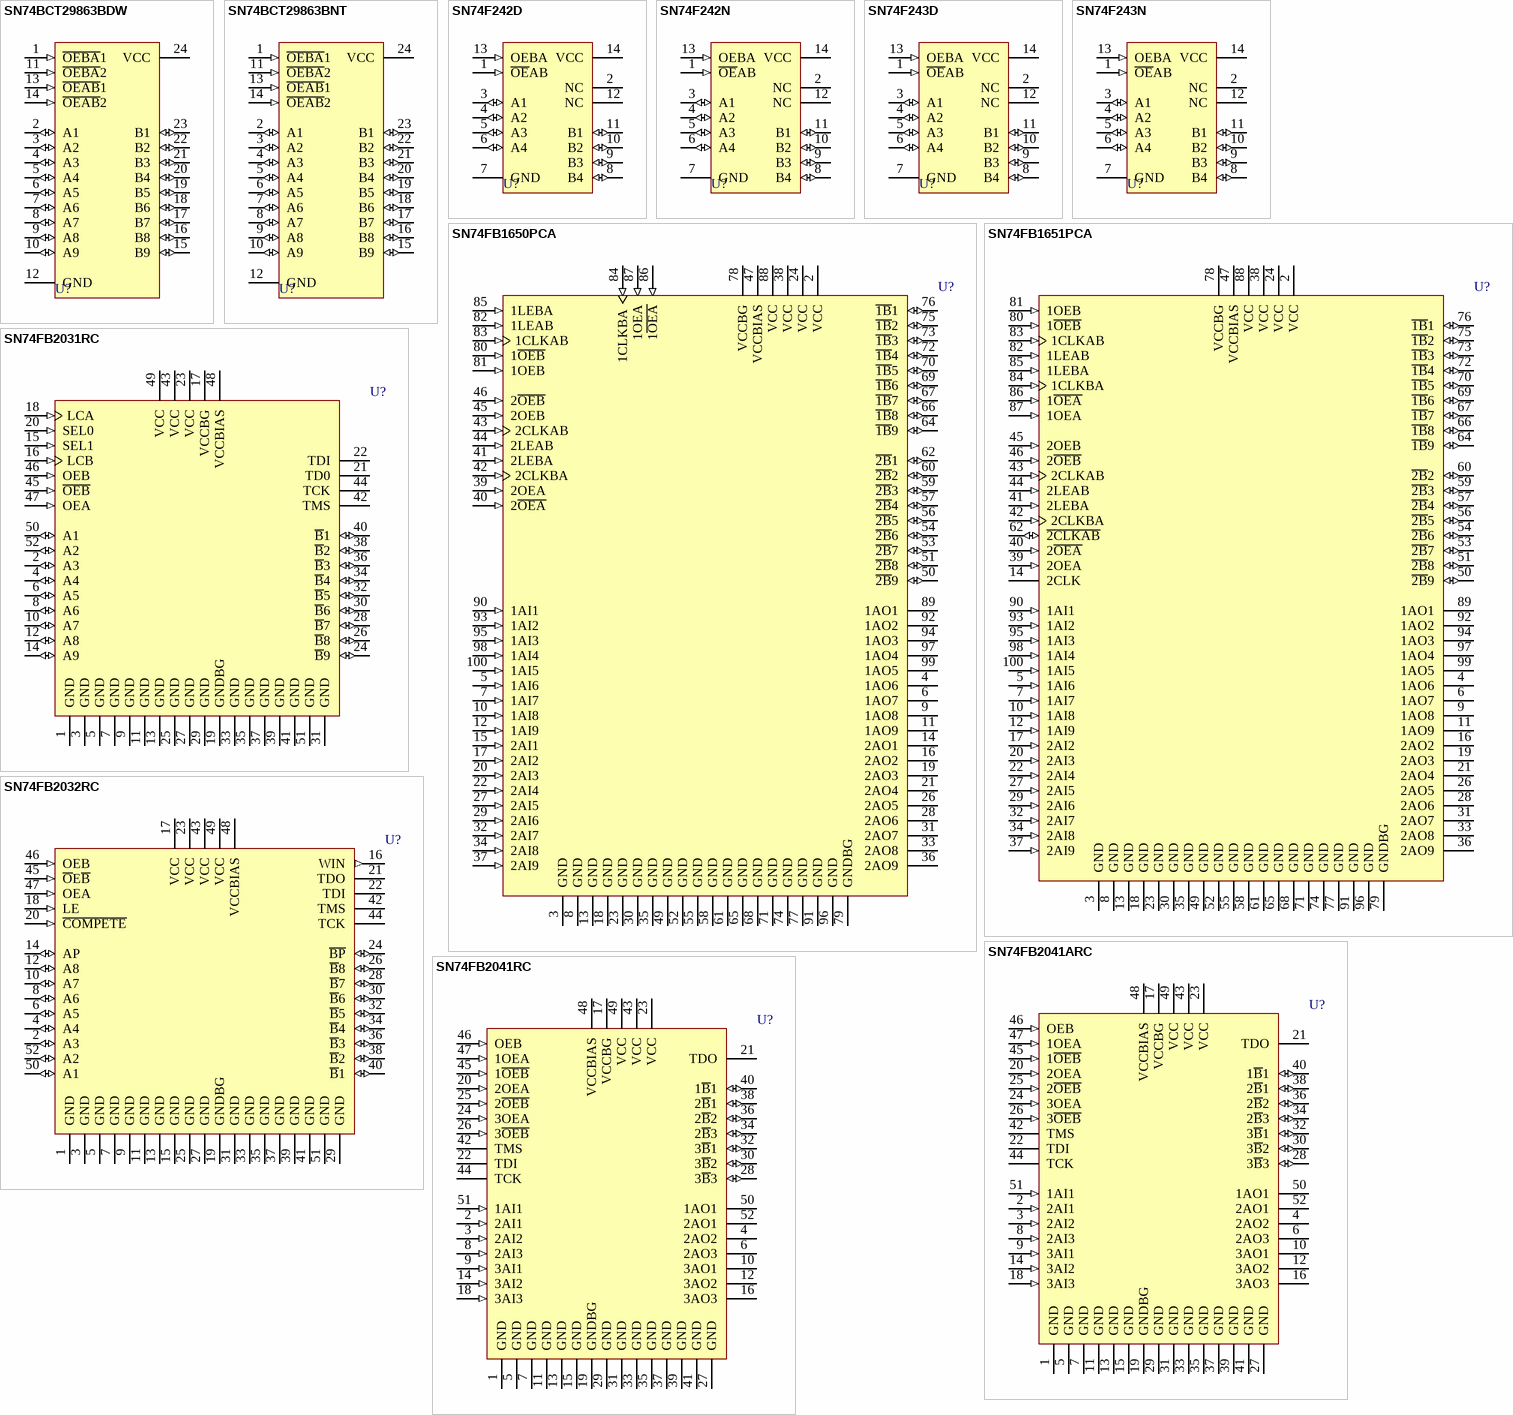
[diagram p22: symbols SN74BCT29863BDW to SN74FB2041RC]

## SN74BCT29863BDW
designator U?
9-Bit Bus Transceiver with 3-State Outputs; Published: 8-Jun-2000; LatestRevisionDate: 13-Apr-2006; LatestRevisionNote: IPC-7351 Footprint Added.; DatasheetVersion: Nov-1993; PackageVersion: Mar-2000; PackageReference: DW024; Publisher: Altium Limited; PackageDescription: 24-Pin Plastic Small Outline Integrated Circuit 1.27 mm Pitch; Code_JEDEC: MS-013; ComponentLink1Description: Manufacturer Link; ComponentLink1URL: http://www.ti.com/; ComponentLink2Description: Datasheet; ComponentLink2URL: http://www-s.ti.com/sc/ds/sn74bct29863b.pdf
footprint DW024_N (SOIC, 24-Leads, Body 15.4x7.5mm, Pitch 1.27mm, IPC Medium Density)
footprint DW024_L (SOIC, 24-Leads, Body 15.4x7.5mm, Pitch 1.27mm, IPC High Density)
footprint DW024_M (SOIC, 24-Leads, Body 15.4x7.5mm, Pitch 1.27mm, IPC Low Density)
3D model DW024 (24-Pin Plastic Small Outline Integrated Circuit 1.27 mm Pitch)
signal-integrity model SN74BCT29863BDW
pins: 1 ~{OEBA}1 (in), 2 A1 (io), 3 A2 (io), 4 A3 (io), 5 A4 (io), 6 A5 (io), 7 A6 (io), 8 A7 (io), 9 A8 (io), 10 A9 (io), 11 ~{OEBA}2 (in), 12 GND (power), 13 ~{OEAB}1 (in), 14 ~{OEAB}2 (in), 15 B9 (io), 16 B8 (io), 17 B7 (io), 18 B6 (io), 19 B5 (io), 20 B4 (io), 21 B3 (io), 22 B2 (io), 23 B1 (io), 24 VCC (power)

## SN74BCT29863BNT
designator U?
9-Bit Bus Transceiver with 3-State Outputs; Published: 8-Jun-2000; LatestRevisionDate: 04-Mar-2005; LatestRevisionNote: Stylized 3D Model Added.; DatasheetVersion: Nov-1993; PackageVersion: Oct-1994; PackageReference: NT024; Publisher: Altium Limited; PackageDescription: DIP; 24 Leads; Row Spacing 7.62 mm; Pitch 2.54 mm; Code_JEDEC: MS-001-AF; ComponentLink1Description: Manufacturer Link; ComponentLink1URL: http://www.ti.com/; ComponentLink2Description: Datasheet; ComponentLink2URL: http://www-s.ti.com/sc/ds/sn74bct29863b.pdf
footprint NT024 (DIP; 24 Leads; Row Spacing 7.62 mm; Pitch 2.54 mm)
3D model JT024 (DIP; 24 Leads; Row Spacing 7.62 mm; Pitch 2.54 mm)
signal-integrity model SN74BCT29863BNT
pins: 1 ~{OEBA}1 (in), 2 A1 (io), 3 A2 (io), 4 A3 (io), 5 A4 (io), 6 A5 (io), 7 A6 (io), 8 A7 (io), 9 A8 (io), 10 A9 (io), 11 ~{OEBA}2 (in), 12 GND (power), 13 ~{OEAB}1 (in), 14 ~{OEAB}2 (in), 15 B9 (io), 16 B8 (io), 17 B7 (io), 18 B6 (io), 19 B5 (io), 20 B4 (io), 21 B3 (io), 22 B2 (io), 23 B1 (io), 24 VCC (power)

## SN74F242D
designator U?
Quadruple Bus Transceiver with 3-State Outputs; Note: Pins 2 and 12 are NC.; ComponentAvailability: Obsolete; Published: 8-Jun-2000; LatestRevisionDate: 13-Apr-2006; LatestRevisionNote: IPC-7351 Footprint Added.; DatasheetVersion: Oct-1993; PackageVersion: Jan-1998; PackageReference: D014; Publisher: Altium Limited; PackageDescription: 14-Pin Small Outline Integrated Circuit 1.27 mm Pitch; Code_IPC: SOIC127P600-14; ComponentLink1Description: Manufacturer Link; ComponentLink1URL: http://www.ti.com/; ComponentLink2Description: Datasheet; ComponentLink2URL: http://www-s.ti.com/sc/ds/sn74f242.pdf; ComponentLink3Description: Discontinuation Notice; ComponentLink3URL: http://focus.ti.com/docs/prod/folders/print/sn74f242.html
footprint D014_N (SOIC, 14-Leads, Body 8.7x3.9mm, Pitch 1.27mm, IPC Medium Density)
footprint D014_L (SOIC, 14-Leads, Body 8.7x3.9mm, Pitch 1.27mm, IPC High Density)
footprint D014_M (SOIC, 14-Leads, Body 8.7x3.9mm, Pitch 1.27mm, IPC Low Density)
3D model D014 (14-Pin Small Outline Integrated Circuit 1.27 mm Pitch)
simulation model SN74F242 (SIMCODE)
signal-integrity model SN74F242D
pins: 1 ~{OE}AB (in), 2 NC, 3 A1 (io), 4 A2 (io), 5 A3 (io), 6 A4 (io), 7 GND (power), 8 B4 (io), 9 B3 (io), 10 B2 (io), 11 B1 (io), 12 NC, 13 OEBA (in), 14 VCC (power)

## SN74F242N
designator U?
Quadruple Bus Transceiver with 3-State Outputs; Note: Pins 2 and 12 are NC.; ComponentAvailability: Obsolete; Published: 8-Jun-2000; LatestRevisionDate: 04-Mar-2005; LatestRevisionNote: Stylized 3D Model Added.; DatasheetVersion: Oct-1993; PackageVersion: Oct-1995; PackageReference: N014; Publisher: Altium Limited; PackageDescription: DIP; 14 Leads; Row Spacing 7.62 mm; Pitch 2.54 mm; ComponentLink1Description: Manufacturer Link; ComponentLink1URL: http://www.ti.com/; ComponentLink2Description: Datasheet; ComponentLink2URL: http://www-s.ti.com/sc/ds/sn74f242.pdf; ComponentLink3Description: Discontinuation Notice; ComponentLink3URL: http://focus.ti.com/docs/prod/folders/print/sn74f242.html
footprint N014 (DIP; 14 Leads; Row Spacing 7.62 mm; Pitch 2.54 mm)
3D model N014 (DIP; 14 Leads; Row Spacing 7.62 mm; Pitch 2.54 mm)
simulation model SN74F242 (SIMCODE)
signal-integrity model SN74F242N
pins: 1 ~{OE}AB (in), 2 NC, 3 A1 (io), 4 A2 (io), 5 A3 (io), 6 A4 (io), 7 GND (power), 8 B4 (io), 9 B3 (io), 10 B2 (io), 11 B1 (io), 12 NC, 13 OEBA (in), 14 VCC (power)

## SN74F243D
designator U?
Quadruple Bus Transceiver with 3-State Outputs; Note: Pins 2 and 12 are NC.; ComponentAvailability: Obsolete; Published: 8-Jun-2000; LatestRevisionDate: 13-Apr-2006; LatestRevisionNote: IPC-7351 Footprint Added.; DatasheetVersion: Oct-1993; PackageVersion: Jan-1998; PackageReference: D014; Publisher: Altium Limited; PackageDescription: 14-Pin Small Outline Integrated Circuit 1.27 mm Pitch; Code_IPC: SOIC127P600-14; ComponentLink1Description: Manufacturer Link; ComponentLink1URL: http://www.ti.com/; ComponentLink2Description: Datasheet; ComponentLink2URL: http://www-s.ti.com/sc/ds/sn74f243.pdf; ComponentLink3Description: Discontinuation Notice; ComponentLink3URL: http://focus.ti.com/docs/prod/folders/print/sn74f243.html
footprint D014_N (SOIC, 14-Leads, Body 8.7x3.9mm, Pitch 1.27mm, IPC Medium Density)
footprint D014_L (SOIC, 14-Leads, Body 8.7x3.9mm, Pitch 1.27mm, IPC High Density)
footprint D014_M (SOIC, 14-Leads, Body 8.7x3.9mm, Pitch 1.27mm, IPC Low Density)
3D model D014 (14-Pin Small Outline Integrated Circuit 1.27 mm Pitch)
simulation model SN74F243 (SIMCODE)
signal-integrity model SN74F243D
pins: 1 ~{OE}AB (in), 2 NC, 3 A1 (io), 4 A2 (io), 5 A3 (io), 6 A4 (io), 7 GND (power), 8 B4 (io), 9 B3 (io), 10 B2 (io), 11 B1 (io), 12 NC, 13 OEBA (in), 14 VCC (power)

## SN74F243N
designator U?
Quadruple Bus Transceiver with 3-State Outputs; Note: Pins 2 and 12 are NC.; ComponentAvailability: Obsolete; Published: 8-Jun-2000; LatestRevisionDate: 04-Mar-2005; LatestRevisionNote: Stylized 3D Model Added.; DatasheetVersion: Oct-1993; PackageVersion: Oct-1995; PackageReference: N014; Publisher: Altium Limited; PackageDescription: DIP; 14 Leads; Row Spacing 7.62 mm; Pitch 2.54 mm; ComponentLink1Description: Manufacturer Link; ComponentLink1URL: http://www.ti.com/; ComponentLink2Description: Datasheet; ComponentLink2URL: http://www-s.ti.com/sc/ds/sn74f243.pdf; ComponentLink3Description: Discontinuation Notice; ComponentLink3URL: http://focus.ti.com/docs/prod/folders/print/sn74f243.html
footprint N014 (DIP; 14 Leads; Row Spacing 7.62 mm; Pitch 2.54 mm)
3D model N014 (DIP; 14 Leads; Row Spacing 7.62 mm; Pitch 2.54 mm)
simulation model SN74F243 (SIMCODE)
signal-integrity model SN74F243N
pins: 1 ~{OE}AB (in), 2 NC, 3 A1 (io), 4 A2 (io), 5 A3 (io), 6 A4 (io), 7 GND (power), 8 B4 (io), 9 B3 (io), 10 B2 (io), 11 B1 (io), 12 NC, 13 OEBA (in), 14 VCC (power)

## SN74FB1650PCA
designator U?
18-Bit TTL/BTL Universal Storage Transceiver; Note: Pins 1, 48, 63 and 25 are not connected; Published: 8-Jun-2000; LatestRevisionDate: 13-Apr-2006; LatestRevisionNote: IPC-7351 Footprint Added.; DatasheetVersion: Aug-1999; PackageVersion: Dec-1996; PackageReference: PCA100; Publisher: Altium Limited; PackageDescription: 100-Pin Thin Quad Flat Pack 0.5 mm Pitch; ComponentLink1Description: Manufacturer Link; ComponentLink1URL: http://www.ti.com/; ComponentLink2Description: Datasheet; ComponentLink2URL: http://www-s.ti.com/sc/ds/sn74fb1650.pdf
footprint PCA100_N (Thin QFP, 100-Leads, Body 14x14mm, Pitch 0.5mm, IPC Medium Density)
footprint PCA100_L (Thin QFP, 100-Leads, Body 14x14mm, Pitch 0.5mm, IPC High Density)
footprint PCA100_M (Thin QFP, 100-Leads, Body 14x14mm, Pitch 0.5mm, IPC Low Density)
3D model SN74FB1650-PCA100 (100-Pin Thin Quad Flat Pack 0.5 mm Pitch)
pins: 2 VCC (power), 3 GND (power), 4 1AO6 (hiz), 5 1AI6 (in), 6 1AO7 (hiz), 7 1AI7 (in), 8 GND (power), 9 1AO8 (hiz), 10 1AI8 (in), 11 1AO9 (hiz), 12 1AI9 (in), 13 GND (power), 14 2AO1 (hiz), 15 2AI1 (in), 16 2AO2 (hiz), 17 2AI2 (in), 18 GND (power), 19 2AO3 (hiz), 20 2AI3 (in), 21 2AO4 (hiz), 22 2AI4 (in), 23 GND (power), 24 VCC (power), 26 2AO5 (hiz), 27 2AI5 (in), 28 2AO6 (hiz), 29 2AI6 (in), 30 GND (power), 31 2AO7 (hiz), 32 2AI7 (in), 33 2AO8 (hiz), 34 2AI8 (in), 35 GND (power), 36 2AO9 (hiz), 37 2AI9 (in), 38 VCC (power), 39 2OEA (in), 40 2~{OEA} (in), 41 2LEBA (in), 42 2CLKBA (in), 43 2CLKAB (in), 44 2LEAB (in), 45 2OEB (in), 46 2~{OEB} (in), 47 VCCBIAS (power), 49 GND (power), 50 ~{2B}9 (io), 51 ~{2B}8 (io), 52 GND (power), 53 ~{2B}7 (io), 54 ~{2B}6 (io), 55 GND (power), 56 ~{2B}5 (io), 57 ~{2B}4 (io), 58 GND (power), 59 ~{2B}3 (io), 60 ~{2B}2 (io), 61 GND (power), 62 ~{2B}1 (io), 64 ~{1B}9 (io), 65 GND (power), 66 ~{1B}8 (io), 67 ~{1B}7 (io), 68 GND (power), 69 ~{1B}6 (io), 70 ~{1B}5 (io), 71 GND (power), 72 ~{1B}4 (io), 73 ~{1B}3 (io), 74 GND (power), 75 ~{1B}2 (io), 76 ~{1B}1 (io), 77 GND (power), 78 VCCBG (power), 79 GNDBG (power), 80 1~{OEB} (in), 81 1OEB (in), 82 1LEAB (in), 83 1CLKAB (in), 84 1CLKBA (in), 85 1LEBA (in), 86 1~{OEA} (in), 87 1OEA (in), 88 VCC (power), 89 1AO1 (hiz), 90 1AI1 (in), 91 GND (power), 92 1AO2 (hiz), 93 1AI2 (in), 94 1AO3 (hiz), 95 1AI3 (in), 96 GND (power), 97 1AO4 (hiz), 98 1AI4 (in), 99 1AO5 (hiz), 100 1AI5 (in)

## SN74FB1651PCA
designator U?
17-Bit TTL/BTL Universal Storage Transceiver with Buffered Clock Line; Note: Pins 1, 15, 25, 48 and 63 are not connected; Published: 8-Jun-2000; LatestRevisionDate: 13-Apr-2006; LatestRevisionNote: IPC-7351 Footprint Added.; DatasheetVersion: Aug-1999; PackageVersion: Dec-1996; PackageReference: PCA100; Publisher: Altium Limited; PackageDescription: 100-Pin Thin Quad Flat Pack 0.5 mm Pitch; ComponentLink1Description: Manufacturer Link; ComponentLink1URL: http://www.ti.com/; ComponentLink2Description: Datasheet; ComponentLink2URL: http://www-s.ti.com/sc/ds/sn74fb1651.pdf
footprint PCA100_N (Thin QFP, 100-Leads, Body 14x14mm, Pitch 0.5mm, IPC Medium Density)
footprint PCA100_L (Thin QFP, 100-Leads, Body 14x14mm, Pitch 0.5mm, IPC High Density)
footprint PCA100_M (Thin QFP, 100-Leads, Body 14x14mm, Pitch 0.5mm, IPC Low Density)
3D model SN74FB1651-PCA100 (100-Pin Thin Quad Flat Pack 0.5 mm Pitch)
pins: 2 VCC (power), 3 GND (power), 4 1AO6 (hiz), 5 1AI6 (in), 6 1AO7 (hiz), 7 1AI7 (in), 8 GND (power), 9 1AO8 (hiz), 10 1AI8 (in), 11 1AO9 (hiz), 12 1AI9 (in), 13 GND (power), 14 2CLK (hiz), 16 2AO2 (hiz), 17 2AI2 (in), 18 GND (power), 19 2AO3 (hiz), 20 2AI3 (in), 21 2AO4 (hiz), 22 2AI4 (in), 23 GND (power), 24 VCC (power), 26 2AO5 (hiz), 27 2AI5 (in), 28 2AO6 (hiz), 29 2AI6 (in), 30 GND (power), 31 2AO7 (hiz), 32 2AI7 (in), 33 2AO8 (hiz), 34 2AI8 (in), 35 GND (power), 36 2AO9 (hiz), 37 2AI9 (in), 38 VCC (power), 39 2OEA (in), 40 2~{OEA} (in), 41 2LEBA (in), 42 2CLKBA (in), 43 2CLKAB (in), 44 2LEAB (in), 45 2OEB (in), 46 2~{OEB} (in), 47 VCCBIAS (power), 49 GND (power), 50 ~{2B}9 (io), 51 ~{2B}8 (io), 52 GND (power), 53 ~{2B}7 (io), 54 ~{2B}6 (io), 55 GND (power), 56 ~{2B}5 (io), 57 ~{2B}4 (io), 58 GND (power), 59 ~{2B}3 (io), 60 ~{2B}2 (io), 61 GND (power), 62 ~{2CLKAB} (io), 64 ~{1B}9 (io), 65 GND (power), 66 ~{1B}8 (io), 67 ~{1B}7 (io), 68 GND (power), 69 ~{1B}6 (io), 70 ~{1B}5 (io), 71 GND (power), 72 ~{1B}4 (io), 73 ~{1B}3 (io), 74 GND (power), 75 ~{1B}2 (io), 76 ~{1B}1 (io), 77 GND (power), 78 VCCBG (power), 79 GNDBG (power), 80 1~{OEB} (in), 81 1OEB (in), 82 1LEAB (in), 83 1CLKAB (in), 84 1CLKBA (in), 85 1LEBA (in), 86 1~{OEA} (in), 87 1OEA (in), 88 VCC (power), 89 1AO1 (hiz), 90 1AI1 (in), 91 GND (power), 92 1AO2 (hiz), 93 1AI2 (in), 94 1AO3 (hiz), 95 1AI3 (in), 96 GND (power), 97 1AO4 (hiz), 98 1AI4 (in), 99 1AO5 (hiz), 100 1AI5 (in)

## SN74FB2031RC
designator U?
9-Bit TTL/BTL Address/Data Transceiver; Published: 8-Jun-2000; LatestRevisionDate: 13-Apr-2006; LatestRevisionNote: IPC-7351 Footprint Added.; DatasheetVersion: Jun-1999; PackageVersion: 1998; PackageReference: RC052; Publisher: Altium Limited; PackageDescription: 52-Pin Quad Flat Pack 0.65 mm Pitch; Code_IPC: QFP65P1320X1320-52; ComponentLink1Description: Manufacturer Link; ComponentLink1URL: http://www.ti.com/; ComponentLink2Description: Datasheet; ComponentLink2URL: http://www-s.ti.com/sc/ds/sn74fb2031.pdf
footprint RC052_N (QFP, 52-Leads, Body 10 x 10mm, Pitch 0.65mm, IPC Medium Density)
footprint RC052_L (QFP, 52-Leads, Body 10 x 10mm, Pitch 0.65mm, IPC High Density)
footprint RC052_M (QFP, 52-Leads, Body 10 x 10mm, Pitch 0.65mm, IPC Low Density)
3D model SN74FB2031-RC052 (52-Pin Quad Flat Pack 0.65 mm Pitch)
pins: 1 GND (power), 2 A3 (io), 3 GND (power), 4 A4 (io), 5 GND (power), 6 A5 (io), 7 GND (power), 8 A6 (io), 9 GND (power), 10 A7 (io), 11 GND (power), 12 A8 (io), 13 GND (power), 14 A9 (io), 15 SEL1 (in), 16 LCB (in), 17 VCCBG (power), 18 LCA (in), 19 GNDBG (power), 20 SEL0 (in), 21 TD0, 22 TDI, 23 VCC (power), 24 ~{B}9 (io), 25 GND (power), 26 ~{B}8 (io), 27 GND (power), 28 ~{B}7 (io), 29 GND (power), 30 ~{B}6 (io), 31 GND (power), 32 ~{B}5 (io), 33 GND (power), 34 ~{B}4 (io), 35 GND (power), 36 ~{B}3 (io), 37 GND (power), 38 ~{B}2 (io), 39 GND (power), 40 ~{B}1 (io), 41 GND (power), 42 TMS, 43 VCC (power), 44 TCK, 45 ~{OEB} (in), 46 OEB (in), 47 OEA (in), 48 VCCBIAS (power), 49 VCC (power), 50 A1 (io), 51 GND (power), 52 A2 (io)

## SN74FB2032RC
designator U?
9-Bit TTL/BTL Competition Transceiver; ComponentAvailability: Obsolete; Published: 8-Jun-2000; LatestRevisionDate: 13-Apr-2006; LatestRevisionNote: IPC-7351 Footprint Added.; DatasheetVersion: Jun-1999; PackageVersion: 1998; PackageReference: RC052; Publisher: Altium Limited; PackageDescription: 52-Pin Quad Flat Pack 0.65 mm Pitch; Code_IPC: QFP65P1320X1320-52; ComponentLink1Description: Manufacturer Link; ComponentLink1URL: http://www.ti.com/; ComponentLink2Description: Datasheet; ComponentLink2URL: http://www-s.ti.com/sc/ds/sn74fb2032.pdf
footprint RC052_N (QFP, 52-Leads, Body 10 x 10mm, Pitch 0.65mm, IPC Medium Density)
footprint RC052_L (QFP, 52-Leads, Body 10 x 10mm, Pitch 0.65mm, IPC High Density)
footprint RC052_M (QFP, 52-Leads, Body 10 x 10mm, Pitch 0.65mm, IPC Low Density)
3D model SN74FB2032-RC052 (52-Pin Quad Flat Pack 0.65 mm Pitch)
pins: 1 GND (power), 2 A3 (io), 3 GND (power), 4 A4 (io), 5 GND (power), 6 A5 (io), 7 GND (power), 8 A6 (io), 9 GND (power), 10 A7 (io), 11 GND (power), 12 A8 (io), 13 GND (power), 14 AP (io), 15 GND (power), 16 WIN (out), 17 VCC (power), 18 LE (in), 19 GNDBG (power), 20 ~{COMPETE} (in), 21 TDO, 22 TDI, 23 VCC (power), 24 ~{BP} (io), 25 GND (power), 26 ~{B}8 (io), 27 GND (power), 28 ~{B}7 (io), 29 GND (power), 30 ~{B}6 (io), 31 GND (power), 32 ~{B}5 (io), 33 GND (power), 34 ~{B}4 (io), 35 GND (power), 36 ~{B}3 (io), 37 GND (power), 38 ~{B}2 (io), 39 GND (power), 40 ~{B}1 (io), 41 GND (power), 42 TMS, 43 VCC (power), 44 TCK, 45 ~{O}E~{B} (in), 46 OEB (in), 47 OEA (in), 48 VCCBIAS (power), 49 VCC (power), 50 A1 (io), 51 GND (power), 52 A2 (io)

## SN74FB2041ARC
designator U?
7-Bit TTL/BTL Transceiver; Published: 8-Jun-2000; LatestRevisionDate: 13-Apr-2006; LatestRevisionNote: IPC-7351 Footprint Added.; DatasheetVersion: Jun-1999; PackageVersion: 1998; PackageReference: RC052; Publisher: Altium Limited; PackageDescription: 52-Pin Quad Flat Pack 0.65 mm Pitch; Code_IPC: QFP65P1320X1320-52; ComponentLink1Description: Manufacturer Link; ComponentLink1URL: http://www.ti.com/; ComponentLink2Description: Datasheet; ComponentLink2URL: http://www-s.ti.com/sc/ds/sn74fb2041a.pdf
footprint RC052_N (QFP, 52-Leads, Body 10 x 10mm, Pitch 0.65mm, IPC Medium Density)
footprint RC052_L (QFP, 52-Leads, Body 10 x 10mm, Pitch 0.65mm, IPC High Density)
footprint RC052_M (QFP, 52-Leads, Body 10 x 10mm, Pitch 0.65mm, IPC Low Density)
3D model SN74FB2041A-RC052 (52-Pin Quad Flat Pack 0.65 mm Pitch)
pins: 1 GND (power), 2 2AI1 (in), 3 2AI2 (in), 4 2AO2 (hiz), 5 GND (power), 6 2AO3 (hiz), 7 GND (power), 8 2AI3 (in), 9 3AI1 (in), 10 3AO1 (hiz), 11 GND (power), 12 3AO2 (hiz), 13 GND (power), 14 3AI2 (in), 15 GND (power), 16 3AO3 (hiz), 17 VCCBG (power), 18 3AI3 (in), 19 GNDBG (power), 20 2OEA (in), 21 TDO, 22 TDI, 23 VCC (power), 24 3OEA (in), 25 2~{OEB} (in), 26 3~{OEB} (in), 27 GND (power), 28 3~{B}3 (io), 29 GND (power), 30 3~{B}2 (io), 31 GND (power), 32 3~{B}1 (io), 33 GND (power), 34 2~{B}3 (io), 35 GND (power), 36 2~{B}2 (io), 37 GND (power), 38 2~{B}1 (io), 39 GND (power), 40 1~{B}1 (io), 41 GND (power), 42 TMS, 43 VCC (power), 44 TCK, 45 1~{OEB} (in), 46 OEB (in), 47 1OEA (in), 48 VCCBIAS (power), 49 VCC (power), 50 1AO1 (hiz), 51 1AI1 (in), 52 2AO1 (hiz)

## SN74FB2041RC
designator U?
7-Bit TTL/BTL Transceiver; ComponentAvailability: Obsolete; Published: 8-Jun-2000; LatestRevisionDate: 13-Apr-2006; LatestRevisionNote: IPC-7351 Footprint Added.; DatasheetVersion: Sep-1994; PackageVersion: Mar-1998; PackageReference: RC052C; Publisher: Altium Limited; PackageDescription: 52-Pin Quad Flat Pack 0.65 mm Pitch; Code_IPC: QFP65P1320X1320-52; ComponentLink1Description: Manufacturer Link; ComponentLink1URL: http://www.ti.com/; ComponentLink2Description: Discontinuation Notice; ComponentLink2URL: http://focus.ti.com/docs/prod/folders/print/sn74fb2041.html
footprint RC052C_N (QFP, 52-Leads, Body 10 x 10mm, Pitch 0.65mm, IPC Medium Density)
footprint RC052C_L (QFP, 52-Leads, Body 10 x 10mm, Pitch 0.65mm, IPC High Density)
footprint RC052C_M (QFP, 52-Leads, Body 10 x 10mm, Pitch 0.65mm, IPC Low Density)
3D model SN74FB2041-RC052 (52-Pin Quad Flat Pack 0.65 mm Pitch)
pins: 1 GND (power), 2 2AI1 (in), 3 2AI2 (in), 4 2AO2 (hiz), 5 GND (power), 6 2AO3 (hiz), 7 GND (power), 8 2AI3 (in), 9 3AI1 (in), 10 3AO1 (hiz), 11 GND (power), 12 3AO2 (hiz), 13 GND (power), 14 3AI2 (in), 15 GND (power), 16 3AO3 (hiz), 17 VCCBG (power), 18 3AI3 (in), 19 GNDBG (power), 20 2OEA (in), 21 TDO, 22 TDI, 23 VCC (power), 24 3OEA (in), 25 2~{OEB} (in), 26 3~{OEB} (in), 27 GND (power), 28 3~{B}3 (io), 29 GND (power), 30 3~{B}2 (io), 31 GND (power), 32 3~{B}1 (io), 33 GND (power), 34 2~{B}3 (io), 35 GND (power), 36 2~{B}2 (io), 37 GND (power), 38 2~{B}1 (io), 39 GND (power), 40 1~{B}1 (io), 41 GND (power), 42 TMS, 43 VCC (power), 44 TCK, 45 1~{OEB} (in), 46 OEB (in), 47 1OEA (in), 48 VCCBIAS (power), 49 VCC (power), 50 1AO1 (hiz), 51 1AI1 (in), 52 2AO1 (hiz)

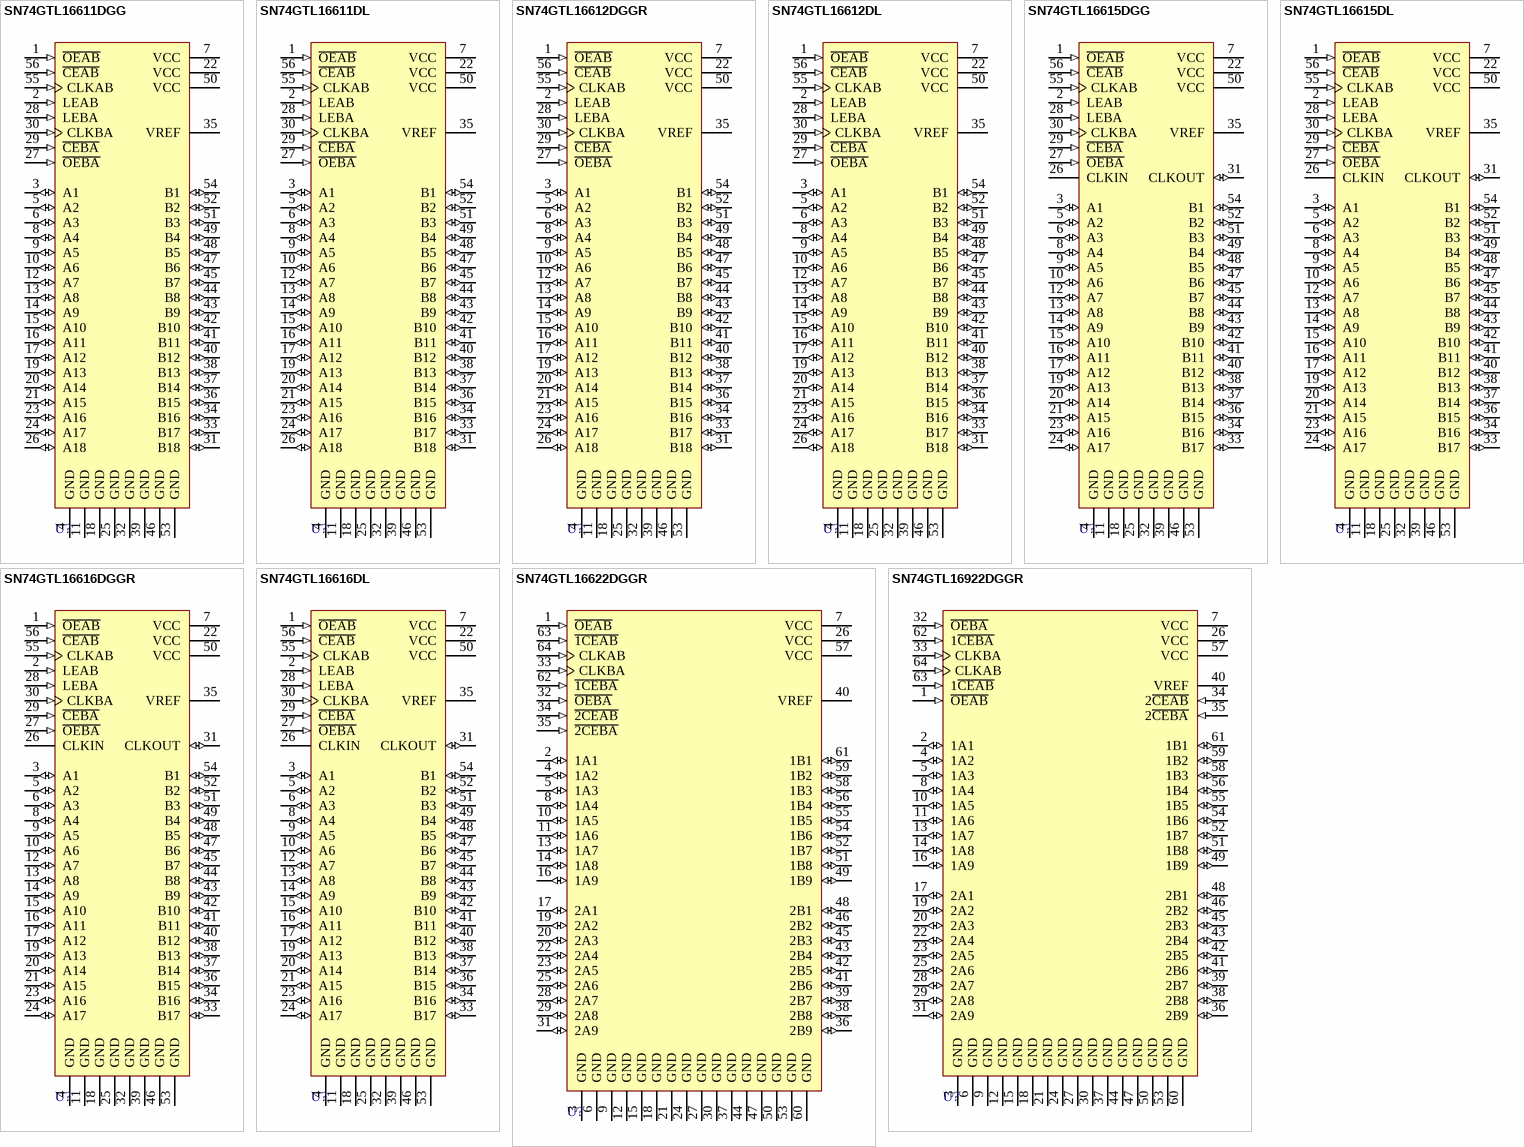
[diagram p23: symbols SN74GTL16611DGG to SN74GTL16922DGGR]

## SN74GTL16611DGG
designator U?
18-Bit GTL/LVT Universal Bus Transceiver; Published: 8-Jun-2000; LatestRevisionDate: 04-Mar-2005; LatestRevisionNote: Stylized 3D Model Added.; DatasheetVersion: Mar-1994; PackageVersion: Jan-1998; PackageReference: DGG056; Publisher: Altium Limited; PackageDescription: Shrink Small Outline; 56 Leads; Body Width 6.1 mm; Pitch 0.5 mm; ComponentLink1Description: Manufacturer Link; ComponentLink1URL: http://www.ti.com/
footprint DGG056 (Shrink Small Outline; 56 Leads; Body Width 6.1 mm; Pitch 0.5 mm)
3D model DGG056 (Shrink Small Outline; 56 Leads; Body Width 6.1 mm; Pitch 0.5 mm)
signal-integrity model SN74GTL16611DGG
pins: 1 ~{OEAB} (in), 2 LEAB (in), 3 A1 (io), 4 GND (power), 5 A2 (io), 6 A3 (io), 7 VCC (power), 8 A4 (io), 9 A5 (io), 10 A6 (io), 11 GND (power), 12 A7 (io), 13 A8 (io), 14 A9 (io), 15 A10 (io), 16 A11 (io), 17 A12 (io), 18 GND (power), 19 A13 (io), 20 A14 (io), 21 A15 (io), 22 VCC (power), 23 A16 (io), 24 A17 (io), 25 GND (power), 26 A18 (io), 27 ~{OEBA} (in), 28 LEBA (in), 29 ~{CEBA} (in), 30 CLKBA (in), 31 B18 (io), 32 GND (power), 33 B17 (io), 34 B16 (io), 35 VREF (power), 36 B15 (io), 37 B14 (io), 38 B13 (io), 39 GND (power), 40 B12 (io), 41 B11 (io), 42 B10 (io), 43 B9 (io), 44 B8 (io), 45 B7 (io), 46 GND (power), 47 B6 (io), 48 B5 (io), 49 B4 (io), 50 VCC (power), 51 B3 (io), 52 B2 (io), 53 GND (power), 54 B1 (io), 55 CLKAB (in), 56 ~{CEAB} (in)

## SN74GTL16611DL
designator U?
18-Bit GTL/LVT Universal Bus Transceiver; Published: 8-Jun-2000; LatestRevisionDate: 04-Mar-2005; LatestRevisionNote: Stylized 3D Model Added.; DatasheetVersion: Mar-1994; PackageVersion: Dec-2001; PackageReference: DL056; Publisher: Altium Limited; PackageDescription: SSOP; 56 Leads; Body Width 7.5 mm; Pitch 0.635 mm; Code_JEDEC: MO-118-AB; Code_IPC: SSO56; ComponentLink1Description: Manufacturer Link; ComponentLink1URL: http://www.ti.com/
footprint DL056 (SSOP; 56 Leads; Body Width 7.5 mm; Pitch 0.635 mm)
3D model DL056 (SSOP; 56 Leads; Body Width 7.5 mm; Pitch 0.635 mm)
signal-integrity model SN74GTL16611DL
pins: 1 ~{OEAB} (in), 2 LEAB (in), 3 A1 (io), 4 GND (power), 5 A2 (io), 6 A3 (io), 7 VCC (power), 8 A4 (io), 9 A5 (io), 10 A6 (io), 11 GND (power), 12 A7 (io), 13 A8 (io), 14 A9 (io), 15 A10 (io), 16 A11 (io), 17 A12 (io), 18 GND (power), 19 A13 (io), 20 A14 (io), 21 A15 (io), 22 VCC (power), 23 A16 (io), 24 A17 (io), 25 GND (power), 26 A18 (io), 27 ~{OEBA} (in), 28 LEBA (in), 29 ~{CEBA} (in), 30 CLKBA (in), 31 B18 (io), 32 GND (power), 33 B17 (io), 34 B16 (io), 35 VREF (power), 36 B15 (io), 37 B14 (io), 38 B13 (io), 39 GND (power), 40 B12 (io), 41 B11 (io), 42 B10 (io), 43 B9 (io), 44 B8 (io), 45 B7 (io), 46 GND (power), 47 B6 (io), 48 B5 (io), 49 B4 (io), 50 VCC (power), 51 B3 (io), 52 B2 (io), 53 GND (power), 54 B1 (io), 55 CLKAB (in), 56 ~{CEAB} (in)